# Altium footprint library CAPACITOR.PcbLib: 21 footprints (part 1 of 2)
Each footprint in its own frame and in the unit in brackets; x right, y up, seen from the top. Pads: shape width x height; smd on the part's side, far side on the other; paste and mask are expansions set on the pad; w line width, h text height; cw(c..) or ccw(c..) is an arc to the next point about the centre after c.
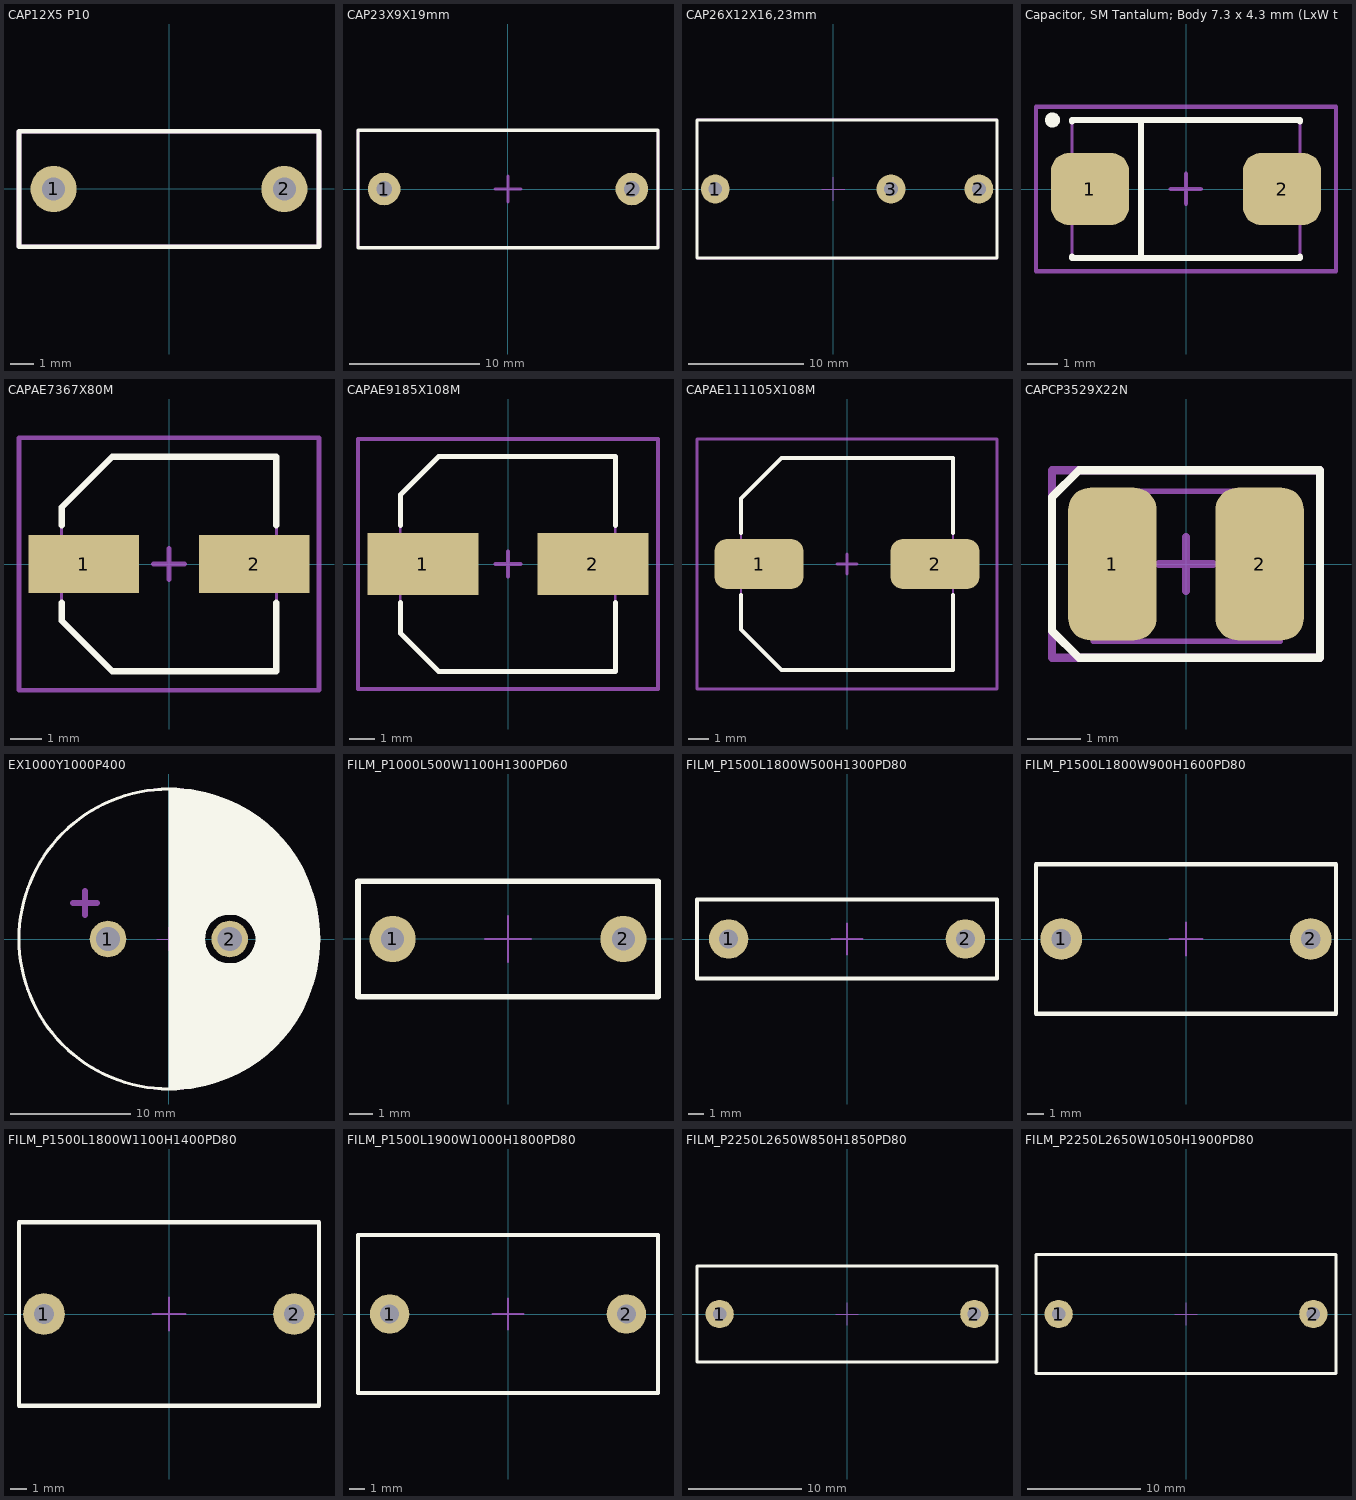
[diagram p0: the footprints below, top view; thin cyan lines are the x and y axes]

## CAP12X5 P10 [mm]
height 10
pads (2):
  round 2 hole 1: 1(-5,0) 2(5,0)
Top Overlay:
  lines w0.2: -6.5,-2.5 -6.5,2.5 6.5,2.5 6.5,-2.5 -6.5,-2.5
Top Assembly:
  lines w0.2: -6.5,-2.5 ccw(c-6.5,-2.5) -6.5,-2.5 ; -6.5,-2.5 6.5,-2.5 ; -6.5,-2.5 -6.5,2.5 ; -6.5,2.5 ccw(c-6.5,2.5) -6.5,2.5 ; -6.5,2.5 6.5,2.5 ; 6.5,-2.5 ccw(c6.5,-2.5) 6.5,-2.5 ; 6.5,-2.5 6.5,2.5 ; 6.5,2.5 ccw(c6.5,2.5) 6.5,2.5
3D body: height 10, standoff 0.2, extent -6.5,-2.5 6.5,2.5
3D body "FILM_RED_P1000L500W1100H1300PD60.step": height 11, standoff -6.2, extent -6.5,-2.5 6.5,2.5

## CAP23X9X19mm [mm]
pads (2):
  round 2.5 hole 1.2: 1(-9.5,0) 2(9.5,0)
Top Overlay:
  lines w0.254: -11.5,-4.5 -11.5,4.5 11.5,4.5 11.5,-4.5 -11.5,-4.5
Top Assembly:
  lines w0.2: -11.5,-4.5 -11.5,4.5 11.5,4.5 11.5,-4.5 -11.5,-4.5
Top Component Outline:
  lines w0.254: -1,0 1,0 ; 0,-1 0,1
3D body "User Library-CBB81_W23_0_H16_0_T9_0_P19_0.STEP": height 19, standoff -10, extent -11.498,-4.5 11.5,4.5

## CAP26X12X16,23mm [mm]
pads (3):
  round 2.5 hole 1.2: 1(-10.215,0) 2(12.645,0) 3(5.025,0)
Top Overlay:
  lines w0.254: -11.785,-6 14.215,-6 14.215,6 -11.785,6 -11.785,-6
Top Assembly:
  lines w0.2: -11.8,-6 14.215,-6 14.215,6 -11.8,6 -11.8,-6
Top Component Outline:
  lines w0.1: -1,0 1,0 ; 0,-1 0,1
3D body: height 18.1, standoff 0, extent -11.785,-6 14.25,6

## Capacitor, SM Tantalum; Body 7.3 x 4.3 mm (LxW typ) [mm] "Capacitor, SM Tantalum; Body 7.3 x 4.3 mm (LxW typ)"
height 3.1
pads (2):
  rrect50% 2.6x2.4 smd: 1(-3.2,0) 2(3.2,0)
Top Overlay:
  circle w0.25: c-4.45,2.3 r0.125
  lines w0.2: -3.8,-2.25 -3.8,-2.3 3.8,-2.3 3.8,-2.25 ; -3.8,2.25 -3.8,2.3 3.8,2.3 3.8,2.25 ; -1.5,-2.3 -1.5,2.3
Top Assembly:
  lines w0.1: -3.8,-2.3 -3.8,2.3 3.8,2.3 3.8,-2.3 -3.8,-2.3
Top Component Outline:
  lines w0.15: -0.5,0 0.5,0 ; 0,-0.5 0,0.5 ; -5,-2.75 -5,2.75 5,2.75 5,-2.75 -5,-2.75
3D body "User Library-CAP_TANT_7343-31.STEP": height 3.1, standoff 0, extent -3.8,-2.3 3.8,2.3

## CAPAE7367X80M [mm] "Aluminum Electrolytic Capacitor, Body 6,70x6,70x8,00mm, IPC Low Density"
height 8
pads (2):
  rect 3.5x1.85 smd: 1(-2.7,0) 2(2.7,0)
Top Overlay:
  lines w0.2: -3.4,-1.225 -3.4,-1.8 -1.8,-3.4 3.4,-3.4 3.4,-1.225 ; -3.4,1.225 -3.4,1.8 -1.8,3.4 3.4,3.4 3.4,1.225
Top Assembly:
  lines w0.1: -3.4,-1.8 -3.4,1.8 -1.8,3.4 3.4,3.4 3.4,-3.4 -1.8,-3.4 -3.4,-1.8
Top Component Outline:
  lines w0.15: -0.5,0 0.5,0 ; 0,-0.5 0,0.5 ; -4.75,-4 4.75,-4 4.75,4 -4.75,4 -4.75,-4
3D body "User Library-ALU-D8.STEP": height 7.7, standoff 0, extent -3.5,-3.3 3.5,3.3

## CAPAE9185X108M [mm] "Aluminum Electrolytic Capacitor, Body 8,50x8,50x10,80mm, IPC Low Density"
height 10.8
pads (2):
  rect 4.45x2.5 smd: 1(-3.4,0) 2(3.4,0)
Top Overlay:
  lines w0.2: -4.3,-1.55 -4.3,-2.775 -2.775,-4.3 4.3,-4.3 4.3,-1.55 ; -4.3,1.55 -4.3,2.775 -2.775,4.3 4.3,4.3 4.3,1.55
Top Assembly:
  lines w0.1: -4.3,-2.775 -2.775,-4.3 4.3,-4.3 4.3,4.3 -2.775,4.3 -4.3,2.775 -4.3,-2.775
Top Component Outline:
  lines w0.15: -0.5,0 0.5,0 ; 0,-0.5 0,0.5 ; -6,-5 -6,5 6,5 6,-5 -6,-5
3D body "User Library-ALU-F.STEP": height 10.2, standoff 0, extent -4.95,-4.15 4.95,4.15

## CAPAE111105X108M [mm] "Aluminum Electrolytic Capacitor, Body 10,50x10,50x10,80mm, IPC Low Density"
height 10.8
pads (2):
  rrect50% 4.45x2.5 smd: 1(-4.4,0) 2(4.4,0)
Top Overlay:
  lines w0.2: -5.3,-1.55 -5.3,-3.275 -3.275,-5.3 5.3,-5.3 5.3,-1.55 ; -5.3,1.55 -5.3,3.275 -3.275,5.3 5.3,5.3 5.3,1.55
Top Assembly:
  lines w0.1: -5.3,-3.275 -3.275,-5.3 5.3,-5.3 5.3,5.3 -3.275,5.3 -5.3,3.275 -5.3,-3.275
Top Component Outline:
  lines w0.15: -0.5,0 0.5,0 ; 0,-0.5 0,0.5 ; -7.5,-6.25 -7.5,6.25 7.5,6.25 7.5,-6.25 -7.5,-6.25
3D body "User Library-ALU-G.STEP": height 10.2, standoff 0, extent -5.8,-5.15 5.8,5.15

## CAPCP3529X22N [mm] "Chip Capacitor, 2-Leads, Body 3,50x2,88mm, IPC Medium Density"
height 2.2
pads (2):
  rrect50% 1.65x2.85 smd: 1(-1.375,0) 2(1.375,0)
Top Overlay:
  lines w0.15: -2.5,-1.25 -2,-1.75 2.5,-1.75 2.5,1.75 -2,1.75 -2.5,1.25 -2.5,-1.25
Top Assembly:
  rectangle: -1.5,-1.4 -1.1,1.4
  lines w0.1: -1.788,-0.694 -1.788,0.606 ; -1.752,-1.144 -1.817,-1.144 -1.817,-0.694 -1.752,-0.694 ; -1.752,-1.144 -1.735,-1.144 -1.735,-0.694 -1.752,-0.694 ; -1.752,-1.144 -1.752,-0.694 ; -1.752,0.606 -1.735,0.606 -1.735,1.056 -1.752,1.056 ; -1.752,0.606 -1.817,0.606 -1.817,1.056 -1.752,1.056 ; -1.752,0.606 -1.752,1.056 ; -1.685,-1.444 -1.685,1.356 ; -1.685,-1.444 -1.435,-1.444 1.715,-1.444 ; -1.685,-1.444 -1.735,-1.444 -1.735,1.356 -1.685,1.356 ; -1.685,1.356 -1.435,1.356 1.715,1.356 ; 1.715,-1.444 1.715,1.356 ; 1.715,-1.444 1.765,-1.444 1.765,1.356 1.715,1.356 ; 1.781,-1.144 1.846,-1.144 1.846,-0.419 ; 1.781,-1.144 1.765,-1.144 1.765,-0.419 1.781,-0.419 ; 1.781,-1.144 1.781,-0.419 ; 1.781,-0.419 1.846,-0.419 ; 1.781,0.331 1.765,0.331 1.765,1.056 1.781,1.056 ; 1.781,0.331 1.846,0.331 ; 1.781,0.331 1.781,1.056 ; 1.781,1.056 1.846,1.056 1.846,0.331 ; 1.846,-0.419 1.846,0.331
Top Component Outline:
  lines w0.15: -0.5,0 0.5,0 ; 0,-0.5 0,0.5 ; -2.5,-1.75 2.5,-1.75 2.5,1.75 -2.5,1.75 -2.5,-1.75
3D body "User Library-QT02752.SLDPRT": height 1.95, standoff 0.04, extent -1.831,-1.4 1.831,1.4

## EX1000Y1000P400 [mil]
pads (2):
  round 120 hole 80: 1(-200,0) 2(200,0)
Top Overlay:
  circle w10: c0,0 r492.13
  region: 0,0 0,433.07 0,492.12 29.53,492.12 48.28,491.54 85.59,487.44 122.45,480.43 158.66,470.54 193.97,457.85 228.19,442.42 261.08,424.36 292.46,403.77 322.12,380.78 349.89,355.54 375.6,328.2 399.08,298.92 420.19,267.89 438.8,235.3 454.79,201.35 468.07,166.25 478.56,130.22 486.19,93.47 490.91,56.24 492.7,18.76 492.12,0 285.43,0 284.7,8.18 280.86,24.14 273.98,39.04 264.32,52.32 252.26,63.45 238.26,72.01 222.85,77.68 206.64,80.24 198.43,80.31 190.55,79.93 175.11,76.86 160.56,70.83 147.47,62.08 136.34,50.95 127.59,37.86 121.57,23.31 118.5,7.87 118.11,0
  region: 0,0 0,-433.07 0,-492.12 29.53,-492.12 48.28,-491.54 85.59,-487.44 122.45,-480.43 158.66,-470.54 193.97,-457.85 228.19,-442.42 261.08,-424.36 292.46,-403.77 322.12,-380.78 349.89,-355.54 375.6,-328.2 399.08,-298.92 420.19,-267.89 438.8,-235.3 454.79,-201.35 468.07,-166.25 478.56,-130.22 486.19,-93.47 490.91,-56.24 492.7,-18.76 492.12,0 285.43,0 284.7,-8.18 280.86,-24.14 273.98,-39.04 264.32,-52.32 252.26,-63.45 238.26,-72.01 222.85,-77.68 206.64,-80.24 198.43,-80.31 190.55,-79.93 175.11,-76.86 160.56,-70.83 147.47,-62.08 136.34,-50.95 127.59,-37.86 121.57,-23.31 118.5,-7.87 118.11,0
Top Assembly:
  circle w10: c-200,0 r15
  circle w10: c200,0 r15
  circle w7.01: c0,0 r492.13
  lines w19.68: -314.96,118.11 -236.22,118.11 ; -275.59,78.74 -275.59,157.48
Top Component Outline:
  lines w3.94: -39.37,0 39.37,0 ; 0,-39.37 0,0 0,39.37
3D body "Snap-Cap 25mm W x 45mm H 10mm pitch.step": height 1791.34, standoff -224.41, extent -693.1,-693.11 693.09,693.09

## FILM_P1000L500W1100H1300PD60 [mm] "Film Capacitor"
height 11
pads (2):
  round 2 hole 1: 1(-5,0) 2(5,0)
Top Overlay:
  lines w0.254: -6.5,-2.5 -6.5,2.5 6.5,2.5 6.5,-2.5 -6.5,-2.5
Top Assembly:
  lines w0.2: -6.5,-2.5 ccw(c-6.5,-2.5) -6.5,-2.5 ; -6.5,-2.5 6.5,-2.5 ; -6.5,-2.5 -6.5,2.5 ; -6.5,2.5 ccw(c-6.5,2.5) -6.5,2.5 ; -6.5,2.5 6.5,2.5 ; 6.5,-2.5 ccw(c6.5,-2.5) 6.5,-2.5 ; 6.5,-2.5 6.5,2.5 ; 6.5,2.5 ccw(c6.5,2.5) 6.5,2.5
Top Component Outline:
  lines w0.1: -1,0 1,0 ; 0,-1 0,1
3D body "FILM_RED_P1000L500W1100H1300PD60.step": height 11.05, standoff -6.15, extent -6.5,-2.5 6.5,2.5

## FILM_P1500L1800W500H1300PD80 [mm] "Film Capacitor"
height 16
pads (2):
  round 2.5 hole 1.2: 1(-7.5,0) 2(7.5,0)
Top Overlay:
  lines w0.254: -9.5,-2.5 9.5,-2.5 9.5,2.5 -9.5,2.5 -9.5,-2.5
Top Assembly:
  lines w0.2: -9.5,-2.5 9.5,-2.5 9.5,2.5 -9.5,2.5 -9.5,-2.5
Top Component Outline:
  lines w0.1: -1,0 1,0 ; 0,-1 0,1
3D body "FILM_RED_P1500L1900W500H1300PD80.step": height 13.05, standoff -6.15, extent -9.5,-2.5 9.5,2.5

## FILM_P1500L1800W900H1600PD80 [mm] "Film Capacitor"
height 16
pads (2):
  round 2.5 hole 1.2: 1(-7.5,0) 2(7.5,0)
Top Overlay:
  lines w0.254: -9.017,-4.5 9.017,-4.5 9.017,4.5 -9.017,4.5 -9.017,-4.5
Top Assembly:
  lines w0.2: -9,-4.5 9,-4.5 9,4.5 -9,4.5 -9,-4.5
Top Component Outline:
  lines w0.1: -1,0 1,0 ; 0,-1 0,1
3D body "FILM_RED_P1500L1800W900H1600PD80.step": height 16.05, standoff -6.15, extent -9,-4.5 9,4.5

## FILM_P1500L1800W1100H1400PD80 [mm] "Film Capacitor"
height 14
pads (2):
  round 2.5 hole 1.2: 1(-7.5,0) 2(7.5,0)
Top Overlay:
  lines w0.254: -9,-5.5 9,-5.5 9,5.5 -9,5.5 -9,-5.5
Top Assembly:
  lines w0.2: -9,-5.5 9,-5.5 9,5.5 -9,5.5 -9,-5.5
Top Component Outline:
  lines w0.1: -1,0 1,0 ; 0,-1 0,1
3D body "FILM_RED_P1500L1800W1100H1400PD80.step": height 14.05, standoff -6.15, extent -9,-5.5 9,5.5

## FILM_P1500L1900W1000H1800PD80 [mm] "Film Capacitor"
height 18
pads (2):
  round 2.5 hole 1.2: 1(-7.5,0) 2(7.5,0)
Top Overlay:
  lines w0.254: -9.5,-5 9.5,-5 9.5,5 -9.5,5 -9.5,-5
Top Assembly:
  lines w0.2: -9.5,-5 9.5,-5 9.5,5 -9.5,5 -9.5,-5
Top Component Outline:
  lines w0.1: -1,0 1,0 ; 0,-1 0,1
3D body "FILM_RED_P1500L1900W1000H1800PD80.step": height 18.05, standoff -6.15, extent -9.5,-5 9.5,5

## FILM_P2250L2650W850H1850PD80 [mm] "Film Capacitor"
height 18.5
pads (2):
  round 2.5 hole 1.2: 1(-11.25,0) 2(11.25,0)
Top Overlay:
  lines w0.254: -13.25,-4.25 -13.25,4.25 13.25,4.25 13.25,-4.25 -13.25,-4.25
Top Assembly:
  lines w0.2: -13.25,-4.25 13.25,-4.25 13.25,4.25 -13.25,4.25 -13.25,-4.25
Top Component Outline:
  lines w0.1: -1,0 1,0 ; 0,-1 0,1
3D body "FILM_RED_P2250L2650W850H1850PD80.step": height 18.55, standoff -6.15, extent -13.25,-4.25 13.25,4.25

## FILM_P2250L2650W1050H1900PD80 [mm] "Film Capacitor"
height 19
pads (2):
  round 2.5 hole 1.2: 1(-11.25,0) 2(11.25,0)
Top Overlay:
  lines w0.254: -13.25,-5.25 13.25,-5.25 13.25,5.25 -13.25,5.25 -13.25,-5.25
Top Assembly:
  lines w0.2: -13.25,-5.25 -13.25,5.25 13.25,5.25 13.25,-5.25 -13.25,-5.25
Top Component Outline:
  lines w0.1: -1,0 1,0 ; 0,-1 0,1
3D body "FILM_RED_P2250L2650W1050H1900PD80.step": height 19.05, standoff -6.15, extent -13.25,-5.25 13.25,5.25